# Altium schematic symbol library AD7416.SchLib: 1 symbol
Pins are listed as number, name and electrical type; pins without a type are passive.

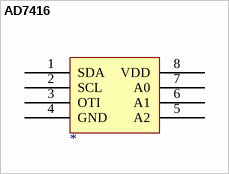
[diagram p0: symbol AD7416]

## AD7416
designator ?
pins: 1 SDA, 2 SCL, 3 OTI, 4 GND, 5 A2, 6 A1, 7 A0, 8 VDD